# EAGLE library part MAX9722BEUE (library Master)
MAX9722B - Differential to single-ended amplifier Datasheet: https://datasheets.maximintegrated.com/en/ds/MAX9722-MAX9722B.pdf
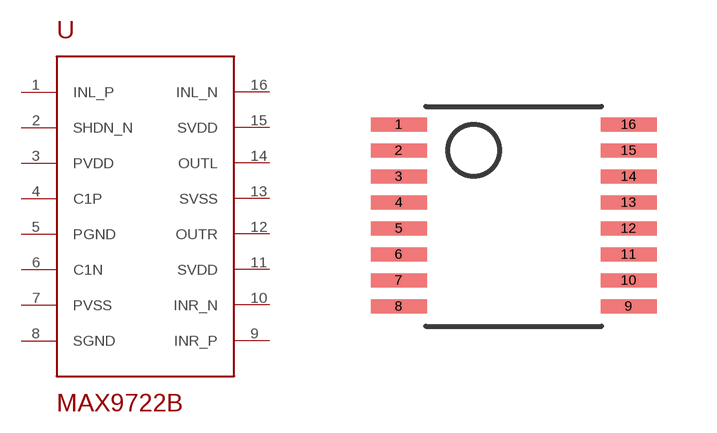
[diagram p9: symbol with the pads of TSSOP-U16-1; footprint TSSOP-U16-1]

Designator prefix U

## MAX9722BEUE  [TSSOP-U16-1]
1  INL_P
2  SHDN_N
3  PVDD
4  C1P
5  PGND
6  C1N
7  PVSS
8  SGND
9  INR_P
10  INR_N
11  SVDD
12  OUTR
13  SVSS
14  OUTL
15  SVDD
16  INL_N

## Footprint TSSOP-U16-1 (pad centres in mm)
TSSOP-U16-1 http://pdfserv.maximintegrated.com/land_patterns/90-0117.PDF
smd 1.4 x 0.35: 1 -2.875,1.95; 2 -2.875,1.3; 3 -2.875,0.65; 4 -2.875,0; 5 -2.875,-0.65; 6 -2.875,-1.3; 7 -2.875,-1.95; 8 -2.875,-2.6; 9 2.875,-2.6; 10 2.875,-1.95; 11 2.875,-1.3; 12 2.875,-0.65; 13 2.875,0; 14 2.875,0.65; 15 2.875,1.3; 16 2.875,1.95